# Altium footprint library kom-el-mm.PcbLib: 51 footprints (part 4 of 4)
Each footprint in its own frame and in the unit in brackets; x right, y up, seen from the top. Pads: shape width x height; smd on the part's side, far side on the other; paste and mask are expansions set on the pad; w line width, h text height; cw(c..) or ccw(c..) is an arc to the next point about the centre after c.
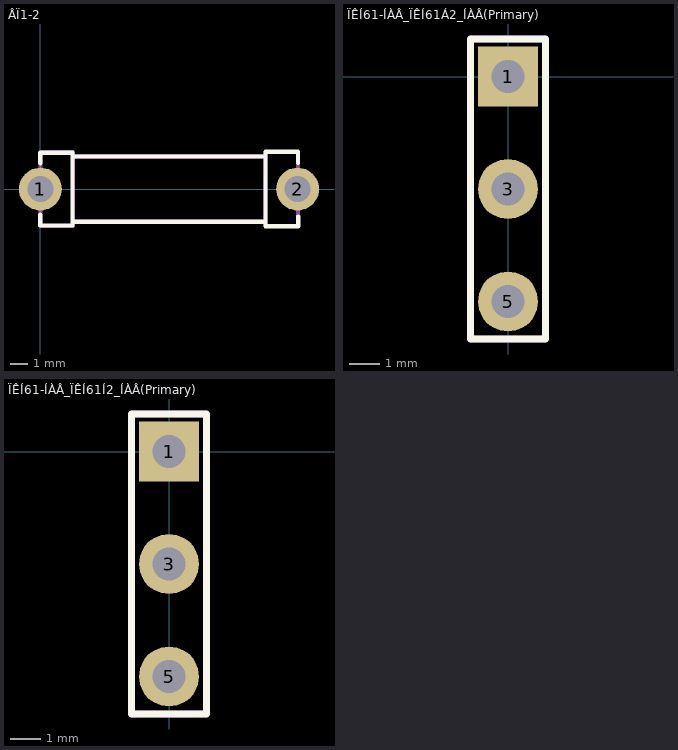
[diagram p3: the footprints below, top view; thin cyan lines are the x and y axes]

## ÂÏ1-2 [mm]
pads (2):
  round 2.5 hole 1.5: 1(0,0) 2(15,0)
Top Overlay:
  lines w0.25: -0.005,-1.5 -0.005,-2.125 1.87,-2.125 1.87,2.125 -0.005,2.125 -0.005,1.5 ; 1.895,-1.915 13.115,-1.915 13.115,-1.9 ; 1.895,1.9 13.115,1.9 13.115,1.87 ; 15.03,1.52 15.03,2.17 13.13,2.17 13.13,2.1 13.13,-2.165 15.045,-2.165 15.045,-2.1 15.045,-1.6
Mechanical 1:
  lines w0.25: 1.905,-1.778 1.905,-2.159 0,-2.159 0,-1.905 0,1.905 0,2.032 0,2.159 1.905,2.159 1.905,1.905 ; 13.11,-1.91 1.905,-1.905 1.905,1.905 ; 13.12,1.91 1.905,1.905 ; 13.125,-2.159 15.03,-2.159 15.03,-1.905 15.03,1.905 15.03,2.159 13.125,2.159 13.125,1.905 13.125,-1.905 13.125,-2.159

## ÏÊÍ61-ÍÀÂ_ÏÊÍ61Á2_ÍÀÂ(Primary) [mm]
pads (3):
  rect 2x2 hole 1.1: 1(0,0)
  round 2 hole 1.1: 3(0,-3.75) 5(0,-7.5)
Top Overlay:
  lines w0.25: -1.25,-8.75 -1.25,1.25 1.25,1.25 1.25,-8.75 -1.25,-8.75
Mechanical 1:
  lines w0.25: -1.25,-8.75 -1.25,1.25 1.25,1.25 1.25,-8.75 -1.25,-8.75

## ÏÊÍ61-ÍÀÂ_ÏÊÍ61Í2_ÍÀÂ(Primary) [mm]
pads (3):
  rect 2x2 hole 1.1: 1(0,0)
  round 2 hole 1.1: 3(0,-3.75) 5(0,-7.5)
Top Overlay:
  lines w0.25: -1.25,-8.75 -1.25,1.25 1.25,1.25 1.25,-8.75 -1.25,-8.75
Mechanical 1:
  lines w0.25: -1.25,-8.75 -1.25,1.25 1.25,1.25 1.25,-8.75 -1.25,-8.75